# Altium footprint library Power_Embedded_Board_Library.PcbLib: 44 footprints (part 2 of 3)
Each footprint in its own frame and in the unit in brackets; x right, y up, seen from the top. Pads: shape width x height; smd on the part's side, far side on the other; paste and mask are expansions set on the pad; w line width, h text height; cw(c..) or ccw(c..) is an arc to the next point about the centre after c.
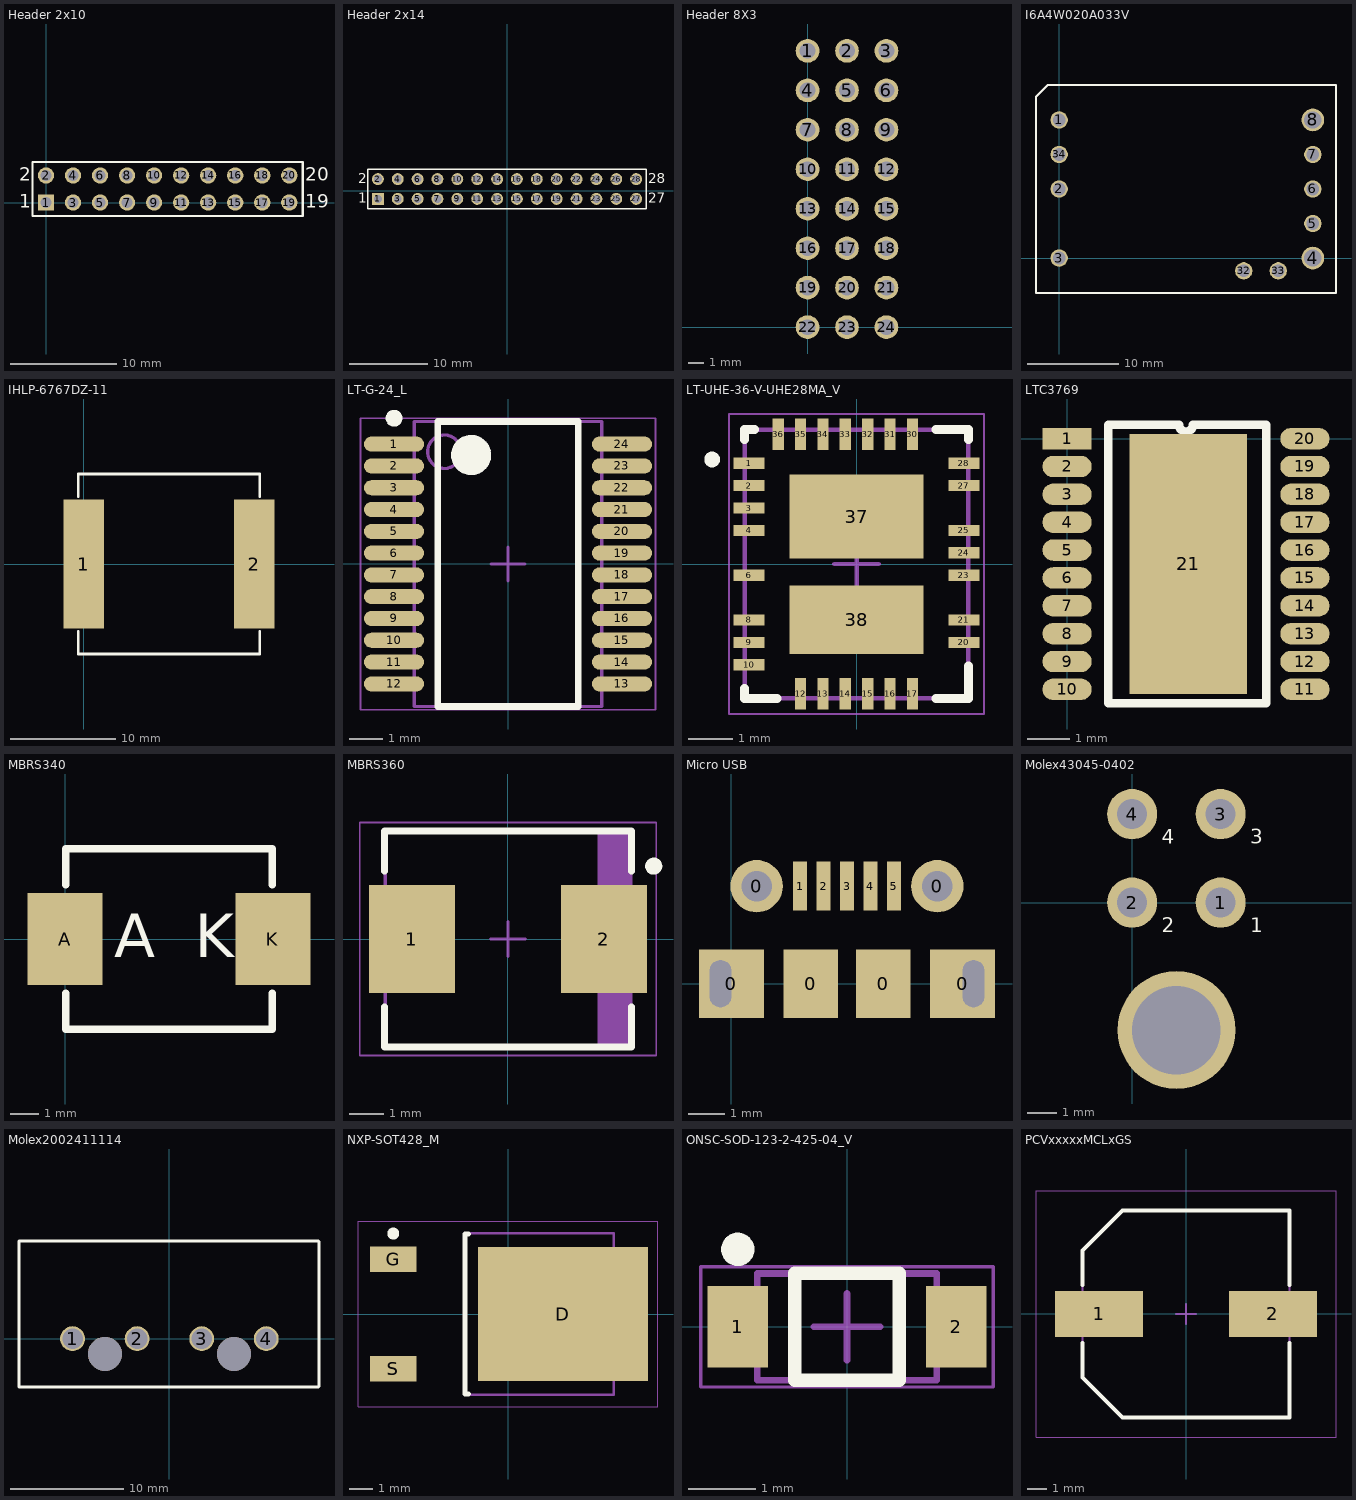
[diagram p1: the footprints below, top view; thin cyan lines are the x and y axes]

## Header 2x10 [mil]
pads (20):
  rect 60x60 hole 40: 1(0,0)
  round 60 hole 40: 2(0,100) 3(100,0) 4(100,100) 5(200,0) 6(200,100) 7(300,0) 8(300,100) 9(400,0) 10(400,100) 11(500,0) 12(500,100) 13(600,0) 14(600,100) 15(700,0) 16(700,100) 17(800,0) 18(800,100) 19(900,0) 20(900,100)
Top Overlay:
  lines w7.87: -50,-50 -50,150 25,150 950,150 950,-50 25,-50 -50,-50
  text "2" at -100,80 h50
  text "1" at -100,-20 h50
  text "19" at 960,-20 h50
  text "20" at 960,80 h50

## Header 2x14 [mil]
pads (28):
  rect 60x60 hole 40: 1(-652,-40)
  round 60 hole 40: 2(-652,60) 3(-552,-40) 4(-552,60) 5(-452,-40) 6(-452,60) 7(-352,-40) 8(-352,60) 9(-252,-40) 10(-252,60) 11(-152,-40) 12(-152,60) 13(-52,-40) 14(-52,60) 15(48,-40) 16(48,60) 17(148,-40) 18(148,60) 19(248,-40) 20(248,60) 21(348,-40) 22(348,60) 23(448,-40) 24(448,60) 25(548,-40) 26(548,60) 27(648,-40) 28(648,60)
Top Overlay:
  lines w7.87: -702,-90 698,-90 698,110 -702,110 -702,-90
  text "28" at 708,40 h50
  text "27" at 708,-60 h50
  text "1" at -752,-60 h50
  text "2" at -752,40 h50

## Header 8X3 [mil] "Connector Header Through Hole 24 position 0.1\""
height 330
pads (24):
  round 60 hole 40: 1(0,700) 2(100,700) 3(200,700) 4(0,600) 5(100,600) 6(200,600) 7(0,500) 8(100,500) 9(200,500) 10(0,400) 11(100,400) 12(200,400) 13(0,300) 14(100,300) 15(200,300) 16(0,200) 17(100,200) 18(200,200) 19(0,100) 20(100,100) 21(200,100) 22(0,0) 23(100,0) 24(200,0)

## I6A4W020A033V [mm] "12V 250W DC/DC Converter - Input 9V to 53V - Output 3.3V to 15V @ 20A"
height 12.7
pads (11):
  round 1.908 hole 1.4: 1(0,15.2) 2(0,7.6) 3(0,0) 5(27.9,3.8) 6(27.9,7.6) 7(27.9,11.4) 32(20.3,-1.4) 33(24.1,-1.4) 34(0,11.4)
  round 2.5 hole 1.9: 4(27.9,0) 8(27.9,15.2)
Top Overlay:
  lines w0.254: -2.55,-3.85 -2.55,17.75 -1.25,19.05 30.45,19.05 30.45,-3.85 -2.55,-3.85

## IHLP-6767DZ-11 [mm] "15µH Shielded Molded Inductor 14A 14.4 mOhm Max Nonstandard"
height 4
pads (2):
  rect 3.825x12.32 smd: 1(0,0) 2(16.245,0)
Top Overlay:
  lines w0.254: -0.52,-6.43 -0.52,-8.575 16.765,-8.575 16.765,-6.43 ; -0.52,6.43 -0.52,8.575 16.765,8.575 16.765,6.43

## LT-G-24_L [mm] "SOP, 24-Leads, Body 8.5x5.6mm, Pitch 0.65mm, IPC High Density"
height 2
pads (24):
  oval 1.8x0.45 smd: 1(-3.4,3.575) 2(-3.4,2.925) 3(-3.4,2.275) 4(-3.4,1.625) 5(-3.4,0.975) 6(-3.4,0.325) 7(-3.4,-0.325) 8(-3.4,-0.975) 9(-3.4,-1.625) 10(-3.4,-2.275) 11(-3.4,-2.925) 12(-3.4,-3.575) 13(3.4,-3.575) 14(3.4,-2.925) 15(3.4,-2.275) 16(3.4,-1.625) 17(3.4,-0.975) 18(3.4,-0.325) 19(3.4,0.325) 20(3.4,0.975) 21(3.4,1.625) 22(3.4,2.275) 23(3.4,2.925) 24(3.4,3.575)
Top Overlay:
  circle w0.25: c-3.4,4.35 r0.125
  circle w0.6: c-1.1,3.25 r0.3
  lines w0.2: -2.1,-4.25 -2.1,4.25 2.1,4.25 2.1,-4.25 -2.1,-4.25
Mechanical 13:
  circle w0.1: c-1.9,3.35 r0.5
  lines w0.1: -2.8,-4.25 -2.8,4.25 2.8,4.25 2.8,-4.25 -2.8,-4.25
Mechanical 15:
  lines w0.05: -4.4,-4.35 -4.4,4.35 4.4,4.35 4.4,-4.35 -4.4,-4.35
  lines w0.1: -0.5,0 0.5,0 ; 0,-0.5 0,0.5
3D body: height 2, standoff 0.05, extent -2.8,-4.25 2.8,4.25

## LT-UHE-36-V-UHE28MA_V [mm] "QFN, 28-Leads, Body 6x5mm, Pitch 0.5mm"
height 0.8
pads (30):
  rect 0.7x0.25 smd: 1(-2.4,2.25) 2(-2.4,1.75) 3(-2.4,1.25) 4(-2.4,0.75) 6(-2.4,-0.25) 8(-2.4,-1.25) 9(-2.4,-1.75) 10(-2.4,-2.25) 20(2.4,-1.75) 21(2.4,-1.25) 23(2.4,-0.25) 24(2.4,0.25) 25(2.4,0.75) 27(2.4,1.75) 28(2.4,2.25)
  rect 0.25x0.7 smd: 12(-1.25,-2.9) 13(-0.75,-2.9) 14(-0.25,-2.9) 15(0.25,-2.9) 16(0.75,-2.9) 17(1.25,-2.9) 30(1.25,2.9) 31(0.75,2.9) 32(0.25,2.9) 33(-0.25,2.9) 34(-0.75,2.9) 35(-1.25,2.9) 36(-1.75,2.9)
  rect 3x1.88 smd: 37(0,1.06)
  rect 3x1.53 smd: 38(0,-1.245)
Top Overlay:
  circle w0.25: c-3.225,2.335 r0.05
  lines w0.2: -2.5,-2.775 -2.5,-3 -1.775,-3 ; -2.5,2.775 -2.5,3 -2.275,3 ; 1.775,-3 2.5,-3 2.5,-2.275 ; 1.775,3 2.5,3 2.5,2.775
Mechanical 13:
  lines w0.1: -2.5,-3 -2.5,3 2.5,3 2.5,-3 -2.5,-3
Mechanical 15:
  lines w0.05: -2.85,-3.35 2.85,-3.35 2.85,3.35 -2.85,3.35 -2.85,-3.35
  lines w0.1: -0.5,0 0.5,0 ; 0,-0.5 0,0.5
3D body: height 0.8, standoff 0, extent -2.5,-3 2.5,3

## LTC3769 [mm]
pads (21):
  rect 1.15x0.5 smd: 1(0,0)
  oval 1.15x0.5 smd: 2(0,-0.65) 3(0,-1.3) 4(0,-1.95) 5(0,-2.6) 6(0,-3.25) 7(0,-3.9) 8(0,-4.55) 9(0,-5.2) 10(0,-5.85) 11(5.55,-5.85) 12(5.55,-5.2) 13(5.55,-4.55) 14(5.55,-3.9) 15(5.55,-3.25) 16(5.55,-2.6) 17(5.55,-1.95) 18(5.55,-1.3) 19(5.55,-0.65) 20(5.55,0)
  rect 2.74x6.07 smd: 21(2.825,-2.921)
Top Overlay:
  lines w0.2: 0.965,-6.175 4.648,-6.175 4.648,0.325 2.937,0.325 cw(c2.775,0.325) 2.612,0.325 0.965,0.325 0.965,-6.175

## MBRS340 [mm] "Schottky Rectifier"
height 2.65
pads (2):
  rect 2.6x3.2 smd: A(0,0) K(7.2,0)
Top Overlay:
  lines w0.254: 0.025,-1.875 0.025,-3.125 7.175,-3.125 7.175,-1.875 ; 0.025,1.875 0.025,3.125 7.175,3.125 7.175,1.875
  text "K" at 4.5,-0.625 h1.52
  text "A" at 1.7,-0.625 h1.52

## MBRS360 [mm] "Molded Diode, 2-Leads, Body 6.88x5.90mm, IPC Medium Density"
height 2.6
pads (2):
  rect 2.5x3.15 smd: 1(-2.8,0) 2(2.8,0)
Top Overlay:
  circle w0.25: c4.25,2.125 r0.125
  lines w0.2: -3.6,-1.975 -3.6,-3.15 3.6,-3.15 3.6,-1.975 ; -3.6,1.975 -3.6,3.15 3.6,3.15 3.6,1.975
Mechanical 13:
  rectangle: 2.613,-3.125 3.575,3.125
  lines w0.1: -3.575,-3.125 -3.575,3.125 3.575,3.125 3.575,-3.125 -3.575,-3.125
Mechanical 15:
  lines w0.05: -4.325,-3.4 -4.325,3.4 4.325,3.4 4.325,-3.4 -4.325,-3.4
  lines w0.1: -0.5,0 0.5,0 ; 0,-0.5 0,0.5
3D body: height 2.6, standoff 0, extent -3.575,-3.125 3.575,3.125

## Micro USB [mm] "USB - micro B USB 2.0 Receptacle Connector 5 Position Surface Mount, Right Angle"
height 2.9
pads (13):
  round 0 hole 0.6 slot 1.3 at 90 deg unplated: 0(-0.3,0) 0(6.7,0)
  rect 1.8x1.9 smd: 0(0,0) 0(6.4,0)
  round 1.45 hole 0.85: 0(0.7,2.7) 0(5.7,2.7)
  rect 1.5x1.9 smd: 0(2.2,0) 0(4.2,0)
  rect 0.4x1.35 smd: 1(1.9,2.7) 2(2.55,2.7) 3(3.2,2.7) 4(3.85,2.7) 5(4.5,2.7)

## Molex43045-0402 [mm] "43045-0402"
pads (5):
  round 1.7 hole 1.02: 1(3,0) 2(0,0) 3(3,3) 4(0,3)
  round 4 hole 3 unplated: ""(1.5,-4.32)
Top Overlay:
  text "3" at 4,2 h0.5
  text "4" at 1,2 h0.5
  text "2" at 1,-1 h0.5
  text "1" at 4,-1 h0.5
3D body "430450402.stp": height 8.83, standoff -3.12, extent -3.575,-8.95 6.575,3.29

## Molex2002411114 [mm]
height 15
pads (6):
  round 2.2 hole 1.8: 1(-8.55,0) 2(-2.85,0) 3(2.85,0) 4(8.55,0)
  round 3 hole 3 unplated: ""(-5.7,-1.34) ""(5.7,-1.34)
Top Overlay:
  lines w0.254: 13.151,-4.27 -13.281,-4.27 -13.281,8.63 13.164,8.63 13.205,8.589 13.205,-4.235
3D body "2002411114.stp": height 17.5, standoff -3.23, extent -11.725,-3.395 11.725,7.205

## NXP-SOT428_M [mm] "DPAK, 3-Leads, Body 6.75x6.22mm, Pitch 2.29mm, IPC Low Density"
height 2.38
pads (3):
  rect 7.1x5.6 smd: D(2.3,0)
  rect 1.95x1.05 smd: G(-4.8,2.29) S(-4.8,-2.29)
Top Overlay:
  circle w0.25: c-4.8,3.365 r0.125
  lines w0.2: -1.65,-3.35 -1.8,-3.35 -1.8,3.35 -1.65,3.35
Mechanical 13:
  lines w0.1: -1.8,-3.375 -1.8,3.375 4.42,3.375 4.42,-3.375 -1.8,-3.375
Mechanical 15:
  lines w0.05: -6.275,-3.875 -6.275,3.875 6.275,3.875 6.275,-3.875 -6.275,-3.875
  lines w0.1: -0.5,0 0.5,0 ; 0,-0.5 0,0.5
3D body: height 2.38, standoff 0, extent -1.8,-3.375 4.42,3.375

## ONSC-SOD-123-2-425-04_V [mm] "SOD, 2-Leads, Body 2.69x1.6mm"
height 1.35
pads (2):
  rect 0.91x1.22 smd: 1(-1.635,0) 2(1.635,0)
Top Overlay:
  circle w0.25: c-1.635,1.16 r0.125
  lines w0.2: -0.78,-0.8 0.78,-0.8 0.78,0.8 -0.78,0.8 -0.78,-0.8
Mechanical 13:
  lines w0.1: -1.345,-0.8 1.345,-0.8 1.345,0.8 -1.345,0.8 -1.345,-0.8
Mechanical 15:
  lines w0.05: -2.19,-0.9 2.19,-0.9 2.19,0.9 -2.19,0.9 -2.19,-0.9
  lines w0.1: -0.5,0 0.5,0 ; 0,-0.5 0,0.5
3D body: height 1.35, standoff 0, extent -1.345,-0.8 1.345,0.8

## PCVxxxxxMCLxGS [mm] "Aluminum Electrolytic Capacitor, Body 10.30x10.30x12.70mm, IPC Low Density"
height 12.7
pads (2):
  rect 4.45x2.35 smd: 1(-4.4,0) 2(4.4,0)
Top Overlay:
  lines w0.2: -5.25,-1.475 -5.25,-3.213 -3.212,-5.25 5.25,-5.25 5.25,-1.475 ; -5.25,1.475 -5.25,3.212 -3.212,5.25 5.25,5.25 5.25,1.475
Mechanical 13:
  lines w0.1: -5.25,-3.213 -5.25,3.212 -3.212,5.25 5.25,5.25 5.25,-5.25 -3.212,-5.25 -5.25,-3.213
Mechanical 15:
  lines w0.05: -7.6,-6.25 7.6,-6.25 7.6,6.25 -7.6,6.25 -7.6,-6.25
  lines w0.1: -0.5,0 0.5,0 ; 0,-0.5 0,0.5
3D body: height 12.7, standoff 0, extent -5.25,-5.25 5.25,5.244
3D body: height 4.24, standoff 0, extent -5.25,-5.25 5.25,5.25